# EAGLE library part MICROFIT_43045_1600 (library IntegratedLib)
Microfit header 16 posicoes (16x02)
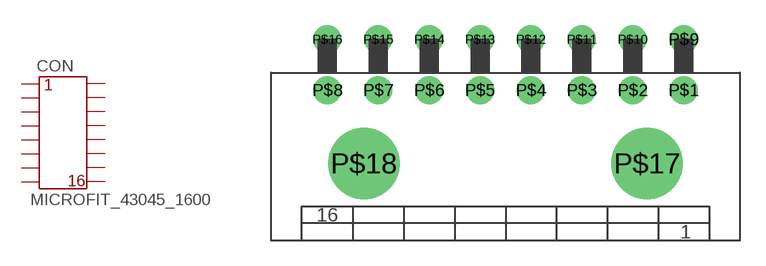
[diagram p28: symbol with the pads of MICROFIT_16CKTS; footprint MICROFIT_16CKTS]

Designator prefix CON

## MICROFIT_43045_1600 (FABRICANTE: MOLEX; PARTNUMBER: 43045-1600; TIPO: CONECTOR)  [MICROFIT_16CKTS]
P$1  P$1
P$2  P$2
P$3  P$3
P$4  P$4
P$5  P$5
P$6  P$6
P$7  P$7
P$8  P$8
P$9  P$9
P$10  P$10
P$11  P$11
P$12  P$12
P$13  P$13
P$14  P$14
P$15  P$15
P$16  P$16

## Footprint MICROFIT_16CKTS (pad centres in mm)
drill 1.1: P$1 10.5,3.58; P$2 7.5,3.58; P$3 4.5,3.58; P$4 1.5,3.58; P$5 -1.5,3.58; P$6 -4.5,3.58; P$7 -7.5,3.58; P$8 -10.5,3.58; P$9 10.5,6.58; P$10 7.5,6.58; P$11 4.5,6.58; P$12 1.5,6.58; P$13 -1.5,6.58; P$14 -4.5,6.58; P$15 -7.5,6.58; P$16 -10.5,6.58
drill 3.2: P$17 8.35,-0.74; P$18 -8.35,-0.74